# Altium schematic symbol library GCMPrototipo.SCHLIB: 27 symbols
Pins are listed as number, name and electrical type; pins without a type are passive.

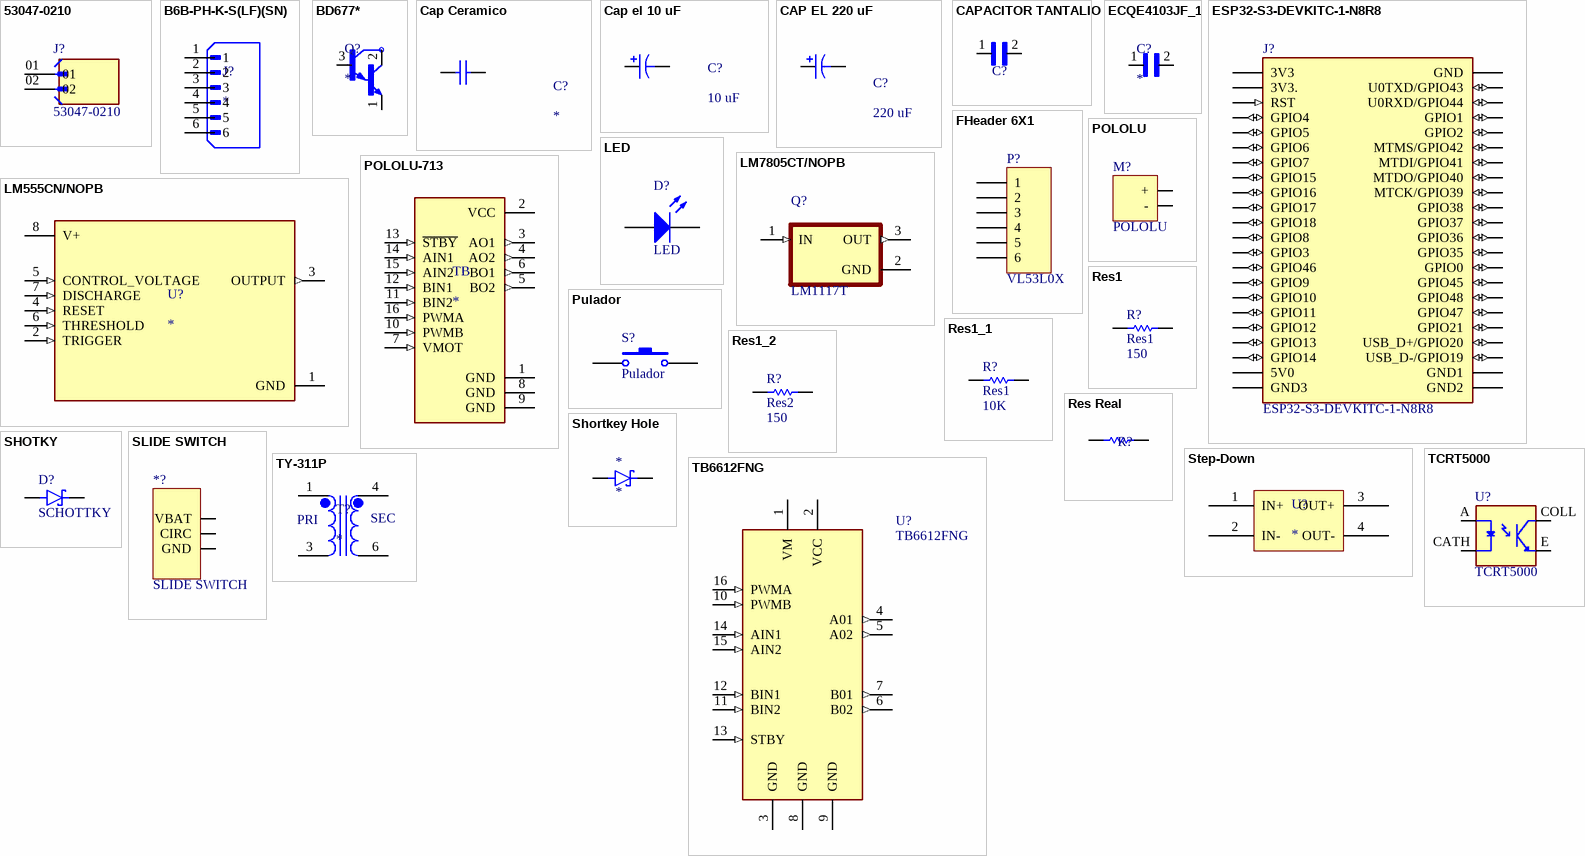
[diagram p0: symbols 53047-0210 to TY-311P]

## 53047-0210
designator J?
.049 pitch picoblade wire to board header, vt 2 circuits | Molex Incorporated 53047-0210; SnapEDA_Link: https://www.snapeda.com/parts/53047-0210/Molex/view-part/?ref=snap; Package: None; Value: *; MF: Molex; MP: 53047-0210; Check_prices: https://www.snapeda.com/parts/53047-0210/Molex/view-part/?ref=eda
footprint MOLEX_53047-0210
pins: 01, 02

## B6B-PH-K-S(LF)(SN)
designator J?
MF: {'manufacturer': u'JST Sales America Inc.'}; MP: B6B-PH-K-S(LF)(SN); Package: None; Price: None; Value: *; Availability: Unavailable; LCSC Part Number: C131342
footprint JST_B6B-PH-K-S(LF)(SN)
pins: 1, 2, 3, 4, 5, 6

## BD677*
designator Q?
DARLINGTON TRANSISTOR, TO-126; Transistor Polarity:NPN; Collector Emitter Voltage V(br)ceo:60V; Power Dissipation Pd:40W; DC Collector Current:4A; DC Current Gain hFE:750; Operating Temperature Range:-55Â°C to +150Â°C; Transistor Case Style:TO-126; No. of Pins:3; SVHC:No SVHC (18-Jun-2012); Av Current Ic:4A; Collector Emitter Voltage Vces:2.5V; Continuous Collector Current Ic Max:4A; Current Ic Continuous a Max:4A; Current Ic hFE:1.5A; Full Power Rating Temperature:25Â°C; Gain Bandwidth ft Typ:3MHz; Hfe Min:750; No. of Transistors:1; Package / Case:TO-126; Power Dissipation Ptot Max:40W; Termination Type:Through Hole; Transistor Type:Darlington; Voltage Vcbo:60V; MF: ON Semiconductor; MP: BD677; SnapEDA_Link: https://www.snapeda.com/parts/BD677/Onsemi/view-part/?ref=snap; Package: TO-126 STMicroelectronics; Value: *; Check_prices: https://www.snapeda.com/parts/BD677/Onsemi/view-part/?ref=eda
footprint TO126
pins: 1 E, 2 C, 3 B

## Cap Ceramico
designator C?
footprint Cap Ceramico
pins: 1, 2

## Cap el 10 uF
designator C?, comment 10 uF
footprint Cap El 10uF
pins: 1, 2

## CAP EL 220 uF
designator C?, comment 220 uF
footprint Cap El 220 uF
pins: 1, 2

## CAPACITOR TANTALIO
designator C?  (value not drawn)
0805; MP: GRM035R60J475ME15D; MF: Murata; Value: *; DigiKey-Purchase-URL: https://snapeda.com/shop?store=DigiKey&id=1181520; Package: 0603 Murata; SnapEDA_Link: https://www.snapeda.com/parts/GRM035R60J475ME15D/Murata%20Electronics%20North%20America/view-part/1181520/?ref=snap; Mouser-Purchase-URL: https://snapeda.com/shop?store=Mouser&id=1181520; Digi-Key_Part_Number: 490-13230-1-ND
footprint CAPACITOR TANTALIO (0805)
pins: 1, 2

## ECQE4103JF_1
designator C?
MP: ECQE4103JF; Availability: Unavailable; Package: None; Value: *; Price: None
footprint CAPRR750W60L1030T430H740
pins: 1, 2

## ESP32-S3-DEVKITC-1-N8R8
designator J?
The ESP32-S3-DEVKITC-1-N8R8 from Espressif Systems is a development board designed for RF, RFID, and wireless applications. It supports 802.11 b/g/n Wi-Fi and BluetoothÂ® 5.x (BLE) connectivity at 2.4GHz, making it ideal for IoT and wireless communication; SnapEDA_Link: https://www.snapeda.com/parts/ESP32-S3-DEVKITC-1-N8R8/Espressif+Systems/view-part/?ref=snap; Package: None; Value: *; MF: Espressif Systems; MP: ESP32-S3-DEVKITC-1-N8R8; Check_prices: https://www.snapeda.com/parts/ESP32-S3-DEVKITC-1-N8R8/Espressif+Systems/view-part/?ref=eda
footprint ESP32-S3-DEVKITC-1-N8R8
pins: J1_1 3V3 (power), J1_2 3V3. (power), J1_3 RST (in), J1_4 GPIO4 (io), J1_5 GPIO5 (io), J1_6 GPIO6 (io), J1_7 GPIO7 (io), J1_8 GPIO15 (io), J1_9 GPIO16 (io), J1_10 GPIO17 (io), J1_11 GPIO18 (io), J1_12 GPIO8 (io), J1_13 GPIO3 (io), J1_14 GPIO46 (io), J1_15 GPIO9 (io), J1_16 GPIO10 (io), J1_17 GPIO11 (io), J1_18 GPIO12 (io), J1_19 GPIO13 (io), J1_20 GPIO14 (io), J1_21 5V0 (power), J1_22 GND3 (power), J3_1 GND (power), J3_2 U0TXD/GPIO43 (io), J3_3 U0RXD/GPIO44 (io), J3_4 GPIO1 (io), J3_5 GPIO2 (io), J3_6 MTMS/GPIO42 (io), J3_7 MTDI/GPIO41 (io), J3_8 MTDO/GPIO40 (io), J3_9 MTCK/GPIO39 (io), J3_10 GPIO38 (io), J3_11 GPIO37 (io), J3_12 GPIO36 (io), J3_13 GPIO35 (io), J3_14 GPIO0 (io), J3_15 GPIO45 (io), J3_16 GPIO48 (io), J3_17 GPIO47 (io), J3_18 GPIO21 (io), J3_19 USB_D+/GPIO20 (io), J3_20 USB_D-/GPIO19 (io), J3_21 GND1 (power), J3_22 GND2 (power)

## FHeader 6X1
designator P?, comment VL53L0X
LatestRevisionDate: 17-Jul-2002; LatestRevisionNote: Re-released for DXP Platform.; Publisher: Altium Limited
footprint FHDR1X6
pins: 1, 2, 3, 4, 5, 6

## LED
designator D?
Published: 8-Jun-2000; LatestRevisionDate: 08-Jul-2005; LatestRevisionNote: Mech Layer 1 removed.; PackageReference: LED-0; Publisher: Altium Limited; PackageDescription: LED; 2 Leads
footprint LED
pins: 0 A, 1 K

## LM555CN/NOPB
designator U?
Highly Stable 555 Timer; MF: Texas Instruments; MP: LM555CN/NOPB; SnapEDA_Link: https://www.snapeda.com/parts/LM555CN/NOPB/Texas+Instruments/view-part/?ref=snap; Package: PDIP-8 Texas; Value: *; Check_prices: https://www.snapeda.com/parts/LM555CN/NOPB/Texas+Instruments/view-part/?ref=eda
footprint DIP794W45P254L959H508Q8
pins: 1 GND (power), 2 TRIGGER (in), 3 OUTPUT (out), 4 RESET (in), 5 CONTROL_VOLTAGE (in), 6 THRESHOLD (in), 7 DISCHARGE (in), 8 V+ (power)

## LM7805CT/NOPB
designator Q?, comment LM1117T
MF: ON Semiconductor; MP: LM7805CT; Purchase-URL: https://pricing.snapeda.com/search/part/LM7805CT/?ref=eda; Check_prices: https://www.snapeda.com/parts/LM7805CT/Onsemi/view-part/?ref=eda; SnapEDA_Link: https://www.snapeda.com/parts/LM7805CT/Onsemi/view-part/?ref=snap; Price: None; Availability: In Stock; Package: TO-220-3 ON Semiconductor; Value: *
footprint TO254P1054X470X2600-3
pins: 1 IN (in), 2 GND (power), 3 OUT (out)

## POLOLU
designator M?
LatestRevisionDate: 17-Jul-2002; LatestRevisionNote: Re-released for DXP Platform.; Publisher: Altium Limited
footprint MOTOR
pins: +, -

## POLOLU-713
designator TB
DC-motor driver; IC: TB6612FNG; 100kHz; 1A; Uin mot: 4.5; MF: Pololu; MP: POLOLU-713; SnapEDA_Link: https://www.snapeda.com/parts/POLOLU-713/Pololu/view-part/53073/?ref=snap; Price: None; Value: *; Availability: Unavailable; Package: None
footprint SHIELD_POLOLU-713
pins: 1 GND (power), 2 VCC (power), 3 AO1 (out), 4 AO2 (out), 5 BO2 (out), 6 BO1 (out), 7 VMOT (in), 8 GND (power), 9 GND (power), 10 PWMB (in), 11 BIN2 (in), 12 BIN1 (in), 13 ~{STBY} (in), 14 AIN1 (in), 15 AIN2 (in), 16 PWMA (in)

## Pulador
designator S?
footprint Pulsador
pins: 1, 2

## Res1
designator R?  value 150
Resistor; Published: 8-Jun-2000; LatestRevisionDate: 17-Jul-2002; LatestRevisionNote: Re-released for DXP Platform.; PackageReference: AXIAL-0.3; Publisher: Altium Limited; PackageDescription: Axial Device, Thru-Hole; 2 Leads; 0.3 in Pin Spacing
simulation model RESISTOR (Resistor)
signal-integrity model Res
footprint Res1
pins: 1, 2

## Res1_1
designator R?, comment Res1  value 10K
Resistor; Published: 8-Jun-2000; LatestRevisionDate: 17-Jul-2002; LatestRevisionNote: Re-released for DXP Platform.; PackageReference: AXIAL-0.3; Publisher: Altium Limited; PackageDescription: Axial Device, Thru-Hole; 2 Leads; 0.3 in Pin Spacing
simulation model RESISTOR (Resistor)
signal-integrity model Res
footprint Res1
pins: 1, 2

## Res1_2
designator R?, comment Res2  value 150
Resistor; Published: 8-Jun-2000; LatestRevisionDate: 17-Jul-2002; LatestRevisionNote: Re-released for DXP Platform.; PackageReference: AXIAL-0.3; Publisher: Altium Limited; PackageDescription: Axial Device, Thru-Hole; 2 Leads; 0.3 in Pin Spacing
simulation model RESISTOR (Resistor)
signal-integrity model Res
footprint Res1
pins: 1, 2

## Res Real
designator R?
Resistor; Published: 8-Jun-2000; LatestRevisionDate: 17-Jul-2002; LatestRevisionNote: Re-released for DXP Platform.; PackageReference: AXIAL-0.3; Publisher: Altium Limited; PackageDescription: Axial Device, Thru-Hole; 2 Leads; 0.3 in Pin Spacing
footprint Res_0.25W
pins: 1, 2

## Shortkey Hole
designator *
footprint Shortky Hole (Diode, Axial; Body 5.2 x 2.7 mm (LxDia. max), Lead Dia. 0.86 mm (max))
pins: 1 A, 2 K

## SHOTKY
designator D?, comment SCHOTTKY
1A, 40V, Schottky Rectifier; MF: Taiwan Semiconductor; MP: SS14; SnapEDA_Link: https://www.snapeda.com/parts/SS14/taiwan/view-part/?ref=snap; Package: SMA-2 Taiwan Semiconductor; Value: *; Check_prices: https://www.snapeda.com/parts/SS14/taiwan/view-part/?ref=eda
footprint SHOTKY (SMD)
pins: A, K

## SLIDE SWITCH
designator *?
footprint Slide Switch
pins: 0 VBAT, 1 CIRC, 2 GND

## Step-Down
designator U?  (no BOM)
footprint Step-Down
pins: 1 IN+, 2 IN-, 3 OUT+, 4 OUT-

## TB6612FNG
designator U?
TB6612FNG Dual Motor Driver Module; ComponentLink1Description: Data Sheet; ComponentLink1URL: https://www.pololu.com/file/0J86/TB6612FNG.pdf
footprint TB6612FNG
pins: 1 VM (power), 2 VCC (power), 3 GND (power), 4 A01 (out), 5 A02 (out), 6 B02 (out), 7 B01 (out), 8 GND (power), 9 GND (power), 10 PWMB (in), 11 BIN2 (in), 12 BIN1 (in), 13 STBY (in), 14 AIN1 (in), 15 AIN2 (in), 16 PWMA (in)

## TCRT5000
designator U?
950 nm 60 mA Through Hole Reflective Optical Sensor with Transistor Output; Availability: Unavailable; MP: TCRT5000; Value: *; Price: None; Package: None
footprint OPTO_TCRT5000
pins: A, CATH, COLL, E

## TY-311P
designator T?
Transformer, audio, 600:600 0mADC | Triad Magnetics TY-311P; SnapEDA_Link: https://www.snapeda.com/parts/TY-311P/Triad+Magnetics/view-part/?ref=snap; Package: None; Value: *; MF: Triad Magnetics; MP: TY-311P; Check_prices: https://www.snapeda.com/parts/TY-311P/Triad+Magnetics/view-part/?ref=eda
footprint XFMR_TY-311P
pins: 1, 3, 4, 6
text: PRI; SEC